# Altium schematic symbol library B7B-XH-A.SchLib: 1 symbol
Pins are listed as number, name and electrical type; pins without a type are passive.

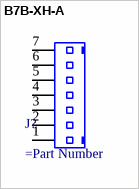
[diagram p0: symbol B7B-XH-A]

## B7B-XH-A
designator J?
=Description
pins: 1, 2, 3, 4, 5, 6, 7